# EAGLE library part 7HT-D (library inductor-toko)
HELICAL FILTER 7 MM TOKO 7HT Series
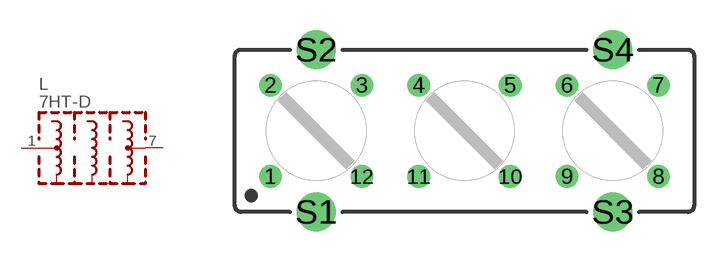
[diagram p5: symbol with the pads of 7HT-D; footprint 7HT-D]

Designator prefix L

## 7HT-D  [7HT-D]
1  IN  pas
5  5  pas
6  6  pas
7  OUT  pas
12  12  pas
S1  S1  pas
S2  S2  pas
S3  S3  pas
S4  S4  pas

## Footprint 7HT-D (pad centres in mm)
HELICAL FILTER - TOKO Type 7HT (D) - Triple Tuned
drill 0.61: 1 -9.55,-2.25; 2 -9.55,2.25; 3 -5.05,2.25; 4 -2.25,2.25; 5 2.25,2.25; 6 5.05,2.25; 7 9.55,2.25; 8 9.55,-2.25; 9 5.05,-2.25; 10 2.25,-2.25; 11 -2.25,-2.25; 12 -5.05,-2.25
drill 1.27: S1 -7.3,-4; S2 -7.3,4; S3 7.3,-4; S4 7.3,4